# EAGLE library part PCM2902 (library burr-brown)
STEREO AUDIO CODEC WITH USB INTERFACE & S/PDIF
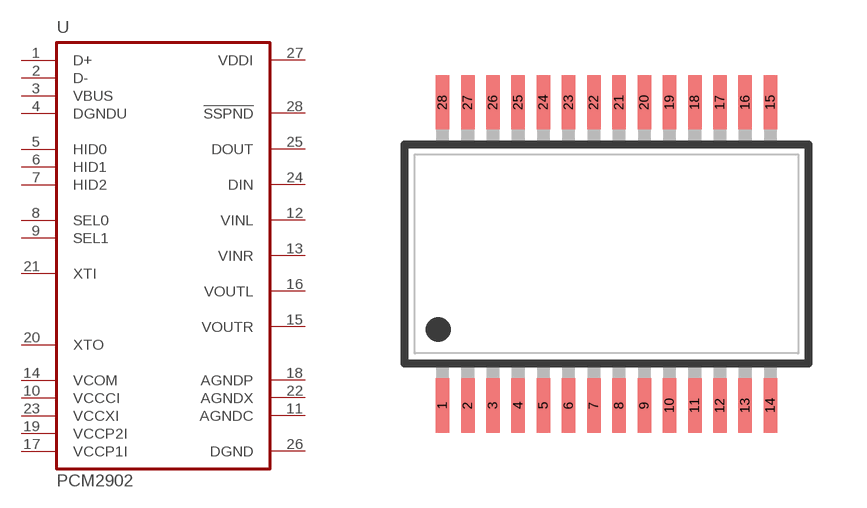
[diagram p178: symbol with the pads of SSOP28DB; footprint SSOP28DB]

Designator prefix U

## PCM2902  [SSOP28DB]
1  D+
2  D-
3  VBUS
4  DGNDU  pwr
5  HID0
6  HID1
7  HID2
8  SEL0  in
9  SEL1  in
10  VCCCI  in
11  AGNDC  pwr
12  VINL  pas
13  VINR  pas
14  VCOM  in
15  VOUTR  pas
16  VOUTL  pas
17  VCCP1I  in
18  AGNDP  pwr
19  VCCP2I  in
20  XTO  out
21  XTI  in
22  AGNDX  pwr
23  VCCXI  in
24  DIN  in
25  DOUT  out
26  DGND  pwr
27  VDDI  pwr
28  !SSPND!  in

## Footprint SSOP28DB (pad centres in mm)
smd 0.348 x 1.397: 1 -4.225,-3.906; 2 -3.575,-3.906; 3 -2.925,-3.906; 4 -2.275,-3.906; 5 -1.625,-3.906; 6 -0.975,-3.906; 7 -0.325,-3.906; 8 0.325,-3.906; 9 0.975,-3.906; 10 1.625,-3.906; 11 2.275,-3.906; 12 2.925,-3.906; 13 3.575,-3.906; 14 4.225,-3.906; 15 4.225,3.906; 16 3.575,3.906; 17 2.925,3.906; 18 2.275,3.906; 19 1.625,3.906; 20 0.975,3.906; 21 0.325,3.906; 22 -0.325,3.906; 23 -0.975,3.906; 24 -1.625,3.906; 25 -2.275,3.906; 26 -2.925,3.906; 27 -3.575,3.906; 28 -4.225,3.906